# Altium schematic symbol library TAOGLAS_GPDF6010.A.SchLib: 1 symbol
Pins are listed as number, name and electrical type; pins without a type are passive.

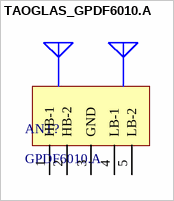
[diagram p0: symbol TAOGLAS_GPDF6010.A]

## TAOGLAS_GPDF6010.A
designator ANT?, comment GPDF6010.A
Passive All-band High Precision GNSS Stacked Dual Pin Dual Feed Patch Antenna; ComponentLibStatus: Created; MFG: Taoglas; Temp_High: +85C; Temp_Low: -40C; Datasheet: https://www.taoglas.com/product/gpdf6010-a-all-band-high-precision-gnss-stacked-patch-antenna/; FootprintLibStatus: Created; MFGPN: GPDF6010.A; RoHS: RoHS Compliant; Version: 2.0
footprint TAOGLAS_GPDF6010.A (Passive All-band High Precision GNSS Stacked Dual Pin Dual Feed Patch Antenna)
pins: 1 HB-1, 2 HB-2, 3 GND, 4 LB-1, 5 LB-2